# EAGLE library part STM32F410TBY6 (library circuit_tree)
IC
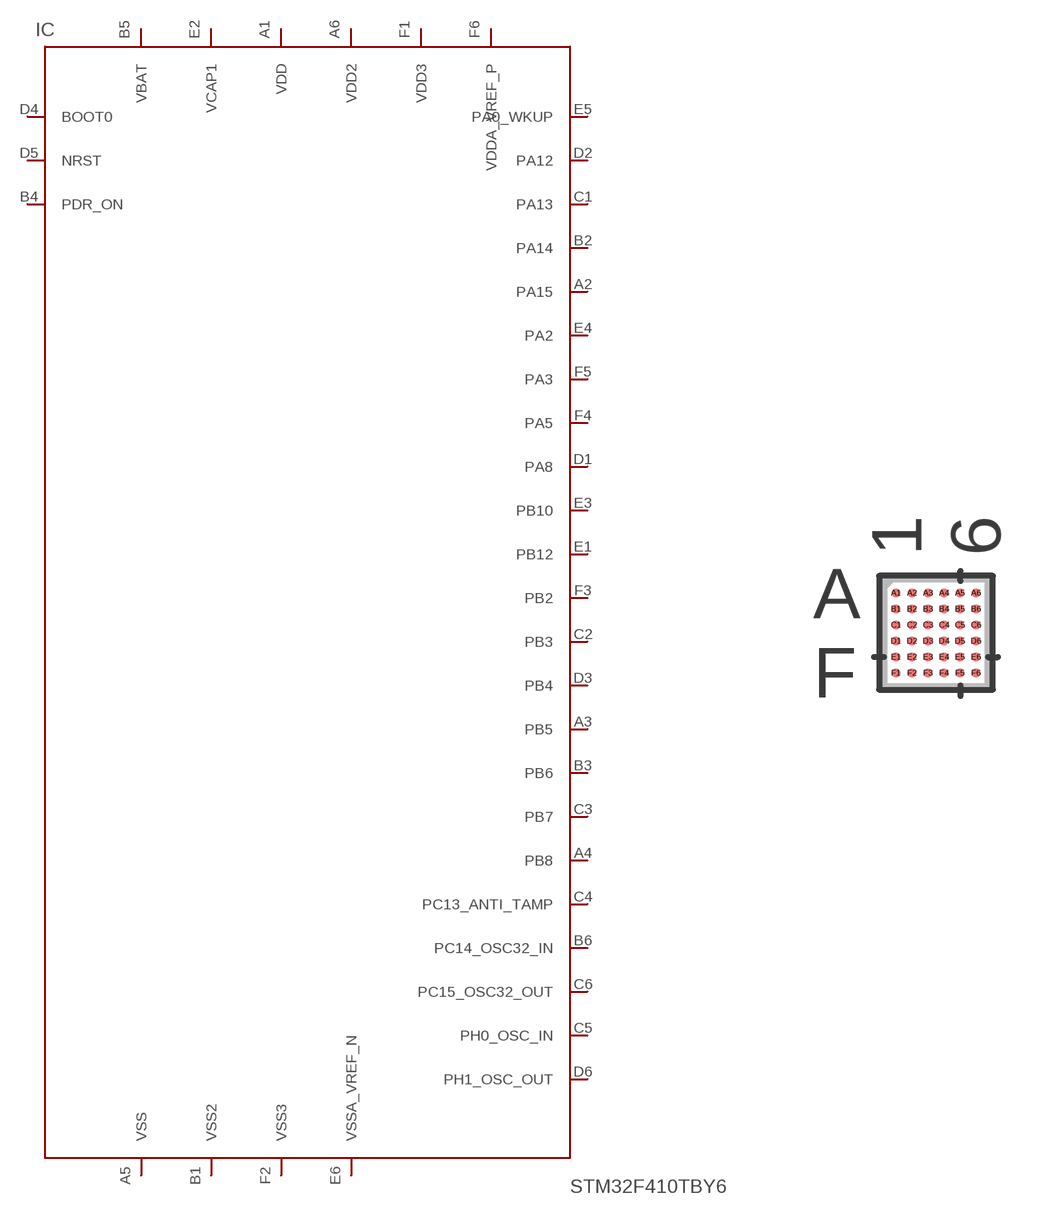
[diagram p5: symbol with the pads of WLCSP36; footprint WLCSP36]

Designator prefix IC

## STM32F410TBY6  [WLCSP36]
A1  VDD  pas
A2  PA15  pas
A3  PB5  pas
A4  PB8  pas
A5  VSS  pas
A6  VDD2  pas
B1  VSS2  pas
B2  PA14  pas
B3  PB6  pas
B4  PDR_ON  pas
B5  VBAT  pas
B6  PC14_OSC32_IN  pas
C1  PA13  pas
C2  PB3  pas
C3  PB7  pas
C4  PC13_ANTI_TAMP  pas
C5  PH0_OSC_IN  pas
C6  PC15_OSC32_OUT  pas
D1  PA8  pas
D2  PA12  pas
D3  PB4  pas
D4  BOOT0  pas
D5  NRST  pas
D6  PH1_OSC_OUT  pas
E1  PB12  pas
E2  VCAP1  pas
E3  PB10  pas
E4  PA2  pas
E5  PA0_WKUP  pas
E6  VSSA_VREF_N  pas
F1  VDD3  pas
F2  VSS3  pas
F3  PB2  pas
F4  PA5  pas
F5  PA3  pas
F6  VDDA_VREF_P  pas

## Footprint WLCSP36 (pad centres in mm)
smd 0.229 x 0.229: A1 -1,1; A2 -0.6,1; A3 -0.2,1; A4 0.2,1; A5 0.6,1; A6 1,1; B1 -1,0.6; B2 -0.6,0.6; B3 -0.2,0.6; B4 0.2,0.6; B5 0.6,0.6; B6 1,0.6; C1 -1,0.2; C2 -0.6,0.2; C3 -0.2,0.2; C4 0.2,0.2; C5 0.6,0.2; C6 1,0.2; D1 -1,-0.2; D2 -0.6,-0.2; D3 -0.2,-0.2; D4 0.2,-0.2; D5 0.6,-0.2; D6 1,-0.2; E1 -1,-0.6; E2 -0.6,-0.6; E3 -0.2,-0.6; E4 0.2,-0.6; E5 0.6,-0.6; E6 1,-0.6; F1 -1,-1; F2 -0.6,-1; F3 -0.2,-1; F4 0.2,-1; F5 0.6,-1; F6 1,-1